# EAGLE library part XTSD (library BLTFootprints)
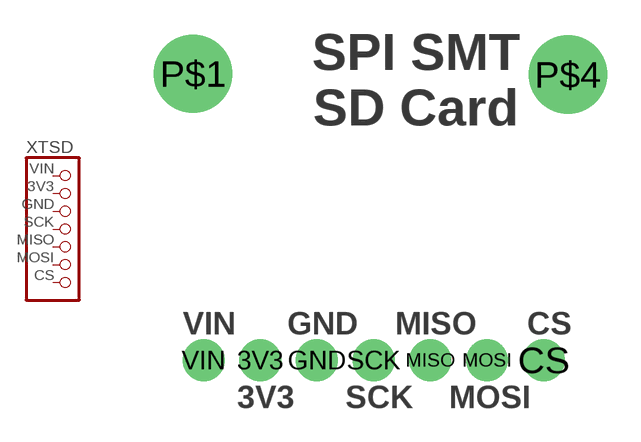
[diagram p0: symbol with the pads of 1X07; footprint 1X07]

Designator prefix -

## XTSDXTSD_PINS, XTSDSDXTSD_PINS  [1X07]
3V3  3V3  pas
CS  CS  pas
GND  GND  pas
MISO  MISO  pas
MOSI  MOSI  pas
SCK  SCK  pas
VIN  VIN  pas

## Footprint 1X07 (pad centres in mm)
Plated Through Hole -7 Pin Specifications: Pin count:7 Pin pitch:0.1" Example device(s): CONN_07
drill 1.016 pad 1.88: 3V3 4.128,0.794; CS 16.828,0.794; GND 6.668,0.794; MISO 11.748,0.794; MOSI 14.287,0.794; SCK 9.207,0.794; VIN 1.587,0.794
drill 2.5 pad 3.2: P$1 1.124,13.626; P$4 17.907,13.589